# Altium footprint library Adapters.PcbLib: 3 footprints
Each footprint in its own frame and in the unit in brackets; x right, y up, seen from the top. Pads: shape width x height; smd on the part's side, far side on the other; paste and mask are expansions set on the pad; w line width, h text height; cw(c..) or ccw(c..) is an arc to the next point about the centre after c.
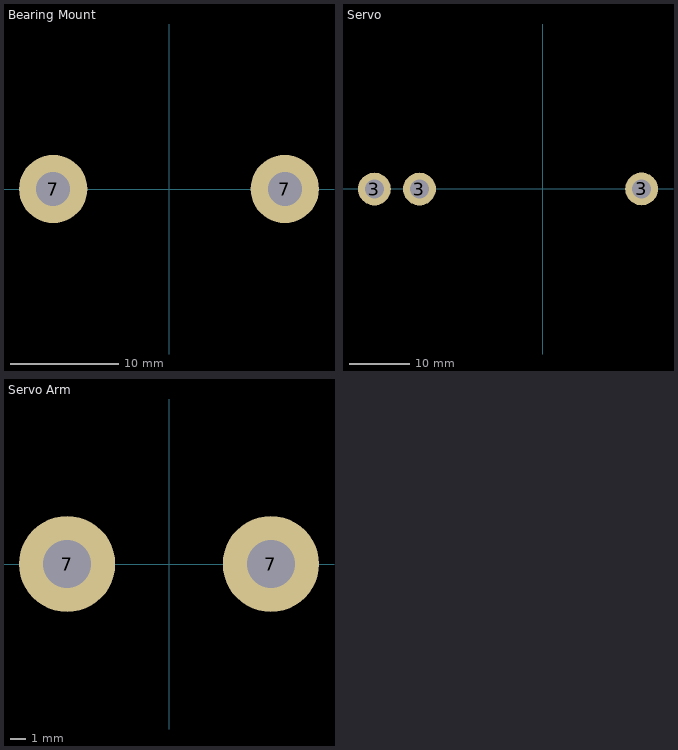
[diagram p0: the footprints below, top view; thin cyan lines are the x and y axes]

## Bearing Mount [mm]
pads (2):
  round 6.35 hole 3.15: 7(-10.755,0) 7(10.755,0)
3D body "pin.STEP": height 2.38, standoff -3.97, extent -3.175,-10.01 3.175,-0.01
3D body "bearingMountBottom.STEP": height 7.37, standoff 0, extent -14.504,-3.75 14.504,3.75
3D body "bearingMountTop.STEP": height 7.37, standoff -12.29, extent -14.504,-3.75 14.504,3.75

## Servo [mm]
pads (3):
  round 5.461 hole 3.15: 3(-28,-0.01) 3(-20.5,-0.01) 3(16.45,0)
3D body "Servo.STEP": height 11.9, standoff -15.47, extent -31.75,-3.76 31.75,39.424

## Servo Arm [mm]
pads (2):
  round 6.35 hole 3.15: 7(-6.727,0) 7(6.727,0)
3D body "ServoArm.STEP": height 2.74, standoff -15.48, extent -10.766,-3.995 10.766,13.08